# Altium footprint library E22-900M22S.PcbLib: 1 footprints
Each footprint in its own frame and in the unit in brackets; x right, y up, seen from the top. Pads: shape width x height; smd on the part's side, far side on the other; paste and mask are expansions set on the pad; w line width, h text height; cw(c..) or ccw(c..) is an arc to the next point about the centre after c.
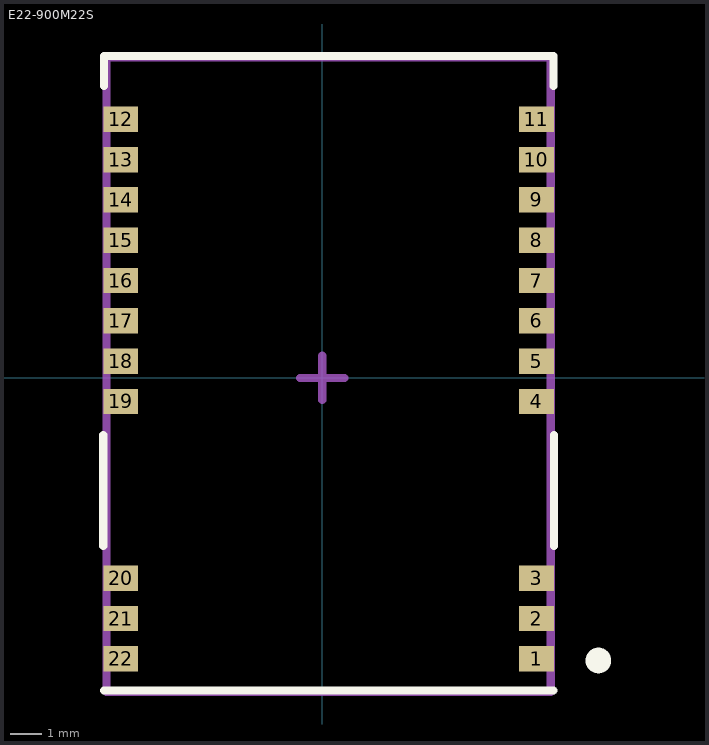
[diagram p0: the footprint, top view; thin cyan lines are the x and y axes]

## E22-900M22S [mm]
height 3.01
pads (22):
  rect 1.1x0.8 smd mask+0.06: 1(6.75,-8.85) 2(6.75,-7.58) 3(6.75,-6.31) 4(6.75,-0.74) 5(6.75,0.53) 6(6.75,1.8) 7(6.75,3.07) 8(6.75,4.34) 9(6.75,5.61) 10(6.75,6.88) 11(6.75,8.15) 12(-6.35,8.15) 13(-6.35,6.88) 14(-6.35,5.61) 15(-6.35,4.34) 16(-6.35,3.07) 17(-6.35,1.8) 18(-6.35,0.53) 19(-6.35,-0.74) 20(-6.35,-6.31) 21(-6.35,-7.58) 22(-6.35,-8.85)
Top Overlay:
  lines w0.254: -6.9,-5.3 -6.9,-1.8 ; -6.88,-9.85 -6.15,-9.85 6.55,-9.85 7.28,-9.85 ; -6.88,9.2 -6.88,10.15 -6.15,10.15 6.55,10.15 7.28,10.15 7.28,9.2 ; 7.3,-5.3 7.3,-1.8
  lines w0.41: 8.894,-8.851 ccw(c8.7,-8.9) 8.9,-8.9
Mechanical 13:
  lines w0.254: -6.8,-9.9 -6.8,10.1 7.2,10.1 7.2,-9.9 -6.8,-9.9
Mechanical 15:
  lines w0.254: -0.7,0 0,0 ; 0,0.7 0,-0.7 0,0 ; 0.7,0 0,0
3D body "E22-900M22S v2.step": height 3, standoff 0, extent -6.8,-9.9 7.2,10.1